# EAGLE library part AVR-ISP (library isp)
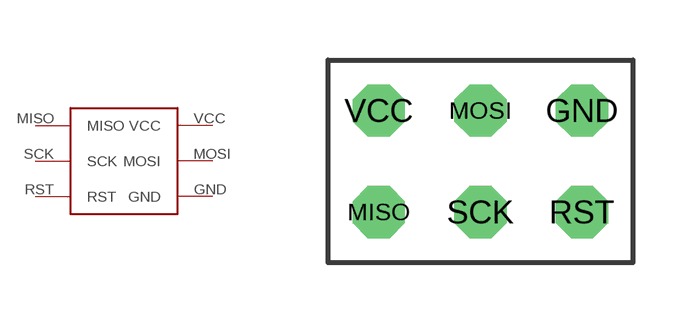
[diagram p0: symbol with the pads of AVR-ISP; footprint AVR-ISP]

Designator prefix -

## AVR-ISP  [AVR-ISP]
GND  GND
MISO  MISO
MOSI  MOSI
RST  RST
SCK  SCK
VCC  VCC

## Footprint AVR-ISP (pad centres in mm)
drill 0.8 octagon: GND 2.54,1.27; MISO -2.54,-1.27; MOSI 0,1.27; RST 2.54,-1.27; SCK 0,-1.27; VCC -2.54,1.27